# Altium schematic symbol library Horizontal Plastic Modular Jack.SchLib: 26 symbols
Pins are listed as number, name and electrical type; pins without a type are passive.

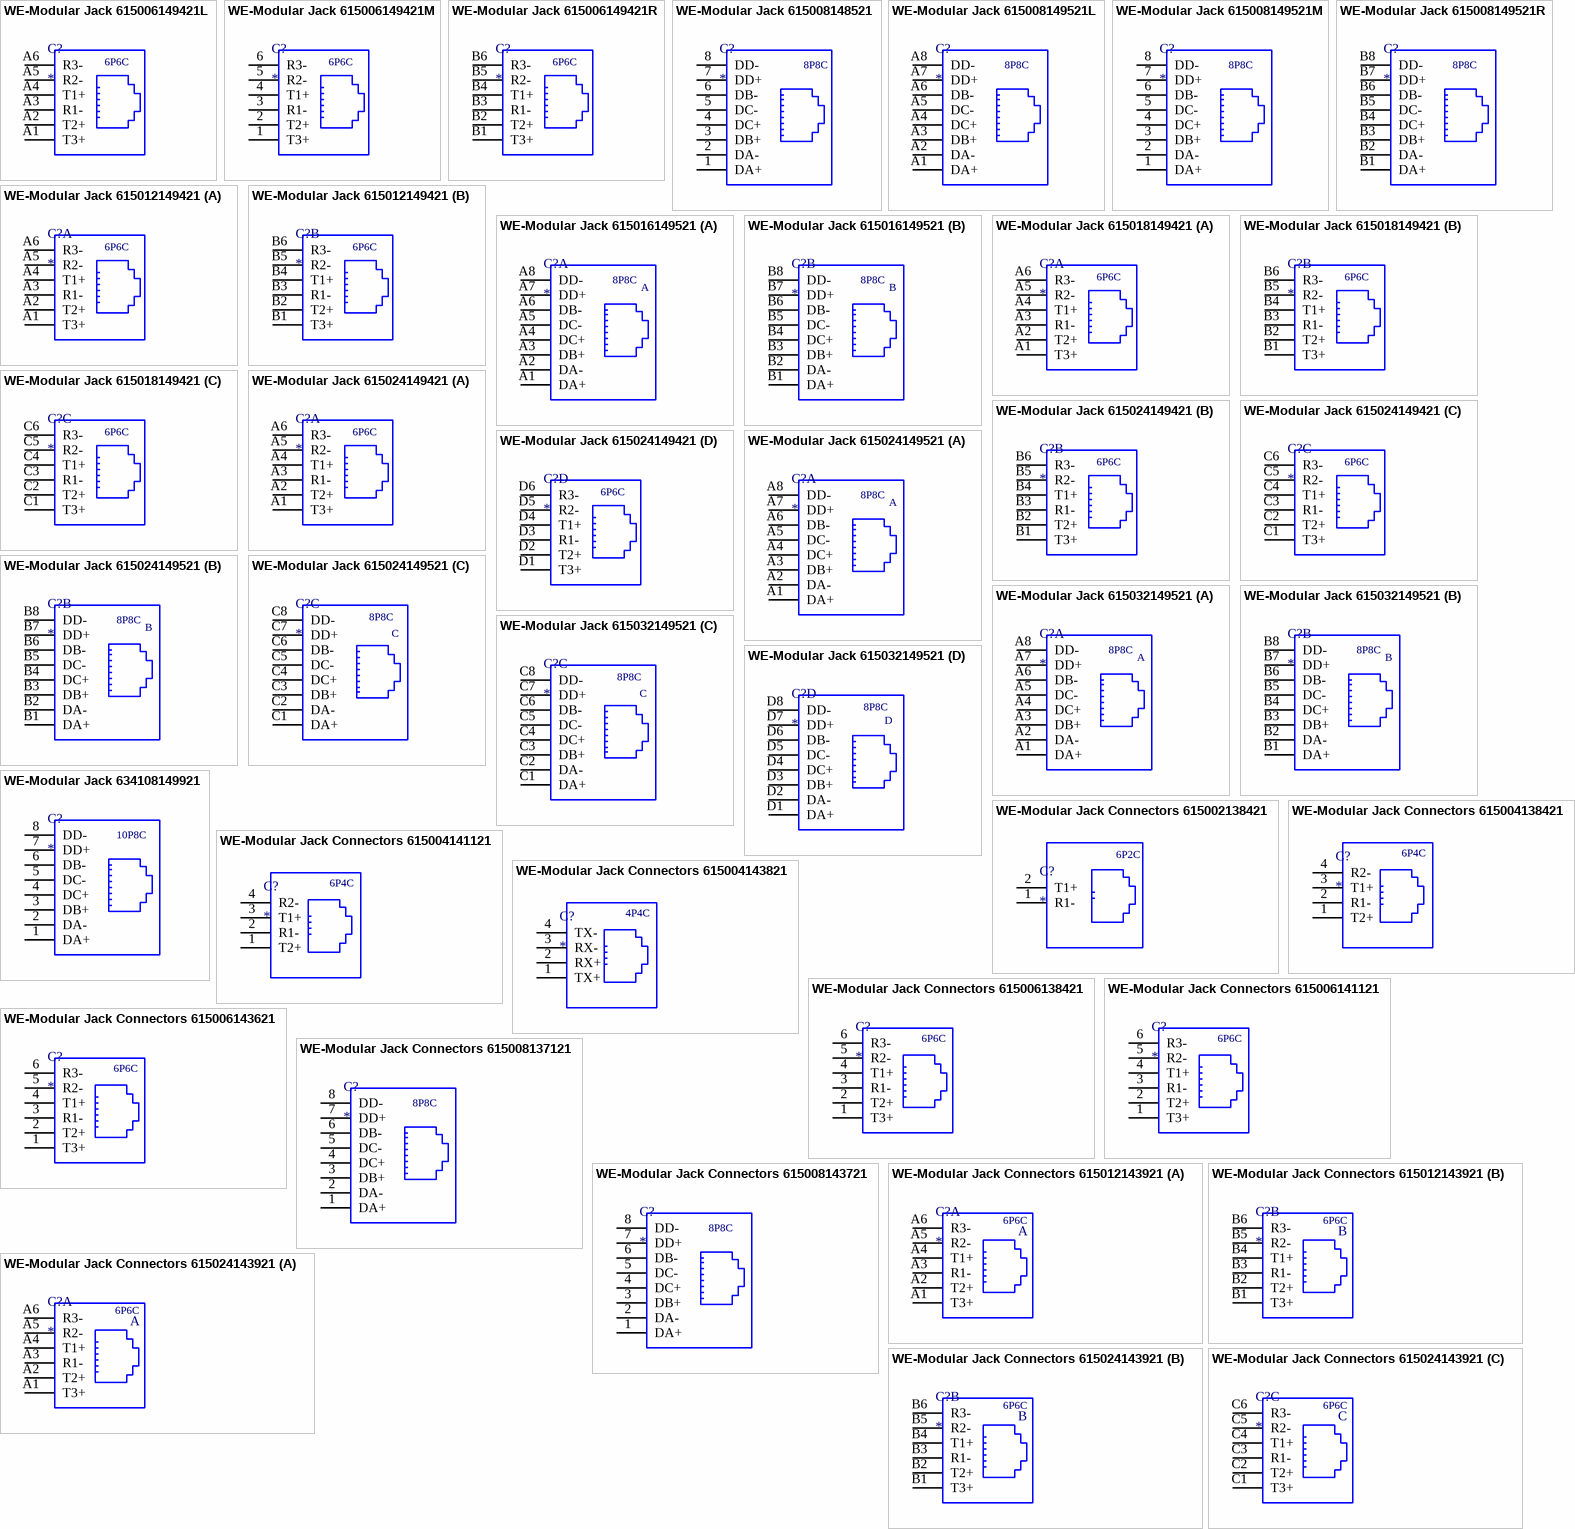
[diagram p0: symbols WE-Modular Jack 615006149421L to WE-Modular Jack Connectors 615024143921]

## WE-Modular Jack 615006149421L
designator C?
WR-MJ_Modular Jack_Tab UP_6P6C; Manufacturer: Würth Elektronik eiSos GmbH; partNo: 615006149421L; ComponentLink1 Description: Manufacturer; ComponentLink2 Description: Datasheet; NoPins: 6; ComponentLink1URL: http://www.we-online.de; ComponentLink2URL: http://katalog.we-online.de/em/datasheet/615006149421L.pdf; Created by: Karrer Zheng; Created Date: 10/20/2014
footprint 615006149421L
pins: A1 T3+, A2 T2+, A3 R1-, A4 T1+, A5 R2-, A6 R3-
text: 6P6C

## WE-Modular Jack 615006149421M
designator C?
WR-MJ_Modular Jack_Tab UP_6P6C; Manufacturer: Würth Elektronik eiSos GmbH; partNo: 615006149421M; ComponentLink1 Description: Manufacturer; ComponentLink2 Description: Datasheet; NoPins: 6; ComponentLink1URL: http://www.we-online.de; ComponentLink2URL: http://katalog.we-online.de/em/datasheet/615006149421M.pdf; Created by: Karrer Zheng; Created Date: 10/20/2014
footprint 615006149421M
pins: 1 T3+, 2 T2+, 3 R1-, 4 T1+, 5 R2-, 6 R3-
text: 6P6C

## WE-Modular Jack 615006149421R
designator C?
WR-MJ_Modular Jack_Tab UP_6P6C; Manufacturer: Würth Elektronik eiSos GmbH; partNo: 615006149421R; ComponentLink1 Description: Manufacturer; ComponentLink2 Description: Datasheet; NoPins: 6; ComponentLink1URL: http://www.we-online.de; ComponentLink2URL: http://katalog.we-online.de/em/datasheet/615006149421R.pdf; Created by: Karrer Zheng; Created Date: 10/20/2014
footprint 615006149421R
pins: B1 T3+, B2 T2+, B3 R1-, B4 T1+, B5 R2-, B6 R3-
text: 6P6C

## WE-Modular Jack 615008148521
designator C?
WR-MJ_Modular Jacks_Plastic_8P8C; Manufacturer: Würth Elektronik eiSos GmbH; partNo: 615008148521; ComponentLink1 Description: Manufacturer; ComponentLink2 Description: Datasheet; NoPins: 8; ComponentLink1URL: http://www.we-online.de; ComponentLink2URL: http://katalog.we-online.de/em/datasheet/615008148521.pdf; Created by: Karrer Zheng; Created Date: 10/20/2014
footprint 615008148521
pins: 1 DA+, 2 DA-, 3 DB+, 4 DC+, 5 DC-, 6 DB-, 7 DD+, 8 DD-
text: 8P8C

## WE-Modular Jack 615008149521L
designator C?
WR-MJ_Modular Jack_Tab UP_8P8C; Manufacturer: Würth Elektronik eiSos GmbH; partNo: 615008149521L; ComponentLink1 Description: Manufacturer; ComponentLink2 Description: Datasheet; NoPins: 8; ComponentLink1URL: http://www.we-online.de; ComponentLink2URL: http://katalog.we-online.de/em/datasheet/615008149521L.pdf; Created by: Karrer Zheng; Created Date: 10/20/2014
footprint 615008149521L
pins: A1 DA+, A2 DA-, A3 DB+, A4 DC+, A5 DC-, A6 DB-, A7 DD+, A8 DD-
text: 8P8C

## WE-Modular Jack 615008149521M
designator C?
WR-MJ_Modular Jack_Tab UP_8P8C; Manufacturer: Würth Elektronik eiSos GmbH; partNo: 615008149521M; ComponentLink1 Description: Manufacturer; ComponentLink2 Description: Datasheet; NoPins: 8; ComponentLink1URL: http://www.we-online.de; ComponentLink2URL: http://katalog.we-online.de/em/datasheet/615008149521M.pdf; Created by: Karrer Zheng; Created Date: 10/20/2014
footprint 615008149521M
pins: 1 DA+, 2 DA-, 3 DB+, 4 DC+, 5 DC-, 6 DB-, 7 DD+, 8 DD-
text: 8P8C

## WE-Modular Jack 615008149521R
designator C?
WR-MJ_Modular Jack_Tab UP_8P8C; Manufacturer: Würth Elektronik eiSos GmbH; partNo: 615008149521R; ComponentLink1 Description: Manufacturer; ComponentLink2 Description: Datasheet; NoPins: 8; ComponentLink1URL: http://www.we-online.de; ComponentLink2URL: http://katalog.we-online.de/em/datasheet/615008149521R.pdf; Created by: Karrer Zheng; Created Date: 10/20/2014
footprint 615008149521R
pins: B1 DA+, B2 DA-, B3 DB+, B4 DC+, B5 DC-, B6 DB-, B7 DD+, B8 DD-
text: 8P8C

## WE-Modular Jack 615012149421
designator C?
WR-MJ_Modular Jack_Tab UP_6P6C; Manufacturer: Würth Elektronik eiSos GmbH; partNo: 615012149421; ComponentLink1 Description: Manufacturer; ComponentLink2 Description: Datasheet; NoPins: 12; ComponentLink1URL: http://www.we-online.de; ComponentLink2URL: http://katalog.we-online.de/em/datasheet/6150xx149421.pdf; Created by: Karrer Zheng; Created Date: 10/20/2014
footprint 615012149421
part A pins: A1 T3+, A2 T2+, A3 R1-, A4 T1+, A5 R2-, A6 R3-
part B pins: B1 T3+, B2 T2+, B3 R1-, B4 T1+, B5 R2-, B6 R3-
part A text: 6P6C
part B text: 6P6C

## WE-Modular Jack 615016149521
designator C?
WR-MJ_Modular Jack_Tab UP_8P8C; Manufacturer: Würth Elektronik eiSos GmbH; partNo: 615016149521; ComponentLink1 Description: Manufacturer; ComponentLink2 Description: Datasheet; NoPins: 16; ComponentLink1URL: http://www.we-online.de; ComponentLink2URL: http://katalog.we-online.de/em/datasheet/6150xx149521.pdf; Created by: Karrer Zheng; Created Date: 10/20/2014
footprint 615016149521
part A pins: A1 DA+, A2 DA-, A3 DB+, A4 DC+, A5 DC-, A6 DB-, A7 DD+, A8 DD-
part B pins: B1 DA+, B2 DA-, B3 DB+, B4 DC+, B5 DC-, B6 DB-, B7 DD+, B8 DD-
part A text: 8P8C; A
part B text: 8P8C; B

## WE-Modular Jack 615018149421
designator C?
WR-MJ_Modular Jack_Tab UP_6P6C; Manufacturer: Würth Elektronik eiSos GmbH; partNo: 615018149421; ComponentLink1 Description: Manufacturer; ComponentLink2 Description: Datasheet; NoPins: 18; ComponentLink1URL: http://www.we-online.de; ComponentLink2URL: http://katalog.we-online.de/em/datasheet/6150xx149421.pdf; Created by: Karrer Zheng; Created Date: 10/20/2014
footprint 615018149421
part A pins: A1 T3+, A2 T2+, A3 R1-, A4 T1+, A5 R2-, A6 R3-
part B pins: B1 T3+, B2 T2+, B3 R1-, B4 T1+, B5 R2-, B6 R3-
part C pins: C1 T3+, C2 T2+, C3 R1-, C4 T1+, C5 R2-, C6 R3-
part A text: 6P6C
part B text: 6P6C
part C text: 6P6C

## WE-Modular Jack 615024149421
designator C?
WR-MJ_Modular Jack_Tab UP_6P6C; Manufacturer: Würth Elektronik eiSos GmbH; partNo: 615024149421; ComponentLink1 Description: Manufacturer; ComponentLink2 Description: Datasheet; NoPins: 24; ComponentLink1URL: http://www.we-online.de; ComponentLink2URL: http://katalog.we-online.de/em/datasheet/6150xx149421.pdf; Created by: Karrer Zheng; Created Date: 10/20/2014
footprint 615024149421
part A pins: A1 T3+, A2 T2+, A3 R1-, A4 T1+, A5 R2-, A6 R3-
part B pins: B1 T3+, B2 T2+, B3 R1-, B4 T1+, B5 R2-, B6 R3-
part C pins: C1 T3+, C2 T2+, C3 R1-, C4 T1+, C5 R2-, C6 R3-
part D pins: D1 T3+, D2 T2+, D3 R1-, D4 T1+, D5 R2-, D6 R3-
part A text: 6P6C
part B text: 6P6C
part C text: 6P6C
part D text: 6P6C

## WE-Modular Jack 615024149521
designator C?
WR-MJ_Modular Jack_Tab UP_8P8C; Manufacturer: Würth Elektronik eiSos GmbH; partNo: 615024149521; ComponentLink1 Description: Manufacturer; ComponentLink2 Description: Datasheet; NoPins: 24; ComponentLink1URL: http://www.we-online.de; ComponentLink2URL: http://katalog.we-online.de/em/datasheet/6150xx149521.pdf; Created by: Karrer Zheng; Created Date: 10/20/2014
footprint 615024149521
part A pins: A1 DA+, A2 DA-, A3 DB+, A4 DC+, A5 DC-, A6 DB-, A7 DD+, A8 DD-
part B pins: B1 DA+, B2 DA-, B3 DB+, B4 DC+, B5 DC-, B6 DB-, B7 DD+, B8 DD-
part C pins: C1 DA+, C2 DA-, C3 DB+, C4 DC+, C5 DC-, C6 DB-, C7 DD+, C8 DD-
part A text: 8P8C; A
part B text: 8P8C; B
part C text: 8P8C; C

## WE-Modular Jack 615032149521
designator C?
WR-MJ_Modular Jack_Tab UP_8P8C; Manufacturer: Würth Elektronik eiSos GmbH; partNo: 615032149521; ComponentLink1 Description: Manufacturer; ComponentLink2 Description: Datasheet; NoPins: 32; ComponentLink1URL: http://www.we-online.de; ComponentLink2URL: http://katalog.we-online.de/em/datasheet/6150xx149521.pdf; Created by: Karrer Zheng; Created Date: 10/20/2014
footprint 615032149521
part A pins: A1 DA+, A2 DA-, A3 DB+, A4 DC+, A5 DC-, A6 DB-, A7 DD+, A8 DD-
part B pins: B1 DA+, B2 DA-, B3 DB+, B4 DC+, B5 DC-, B6 DB-, B7 DD+, B8 DD-
part C pins: C1 DA+, C2 DA-, C3 DB+, C4 DC+, C5 DC-, C6 DB-, C7 DD+, C8 DD-
part D pins: D1 DA+, D2 DA-, D3 DB+, D4 DC+, D5 DC-, D6 DB-, D7 DD+, D8 DD-
part A text: 8P8C; A
part B text: 8P8C; B
part C text: 8P8C; C
part D text: 8P8C; D

## WE-Modular Jack 634108149921
designator C?
WR-MJ_Modular Jack_Tab DOWN_10P8C; Manufacturer: Würth Elektronik eiSos GmbH; partNo: 634108149921; ComponentLink1 Description: Manufacturer; ComponentLink2 Description: Datasheet; NoPins: 8; ComponentLink1URL: http://www.we-online.de; ComponentLink2URL: http://katalog.we-online.de/em/datasheet/634108149921.pdf; Created by: Karrer Zheng; Created Date: 10/20/2014
footprint 634108149921
pins: 1 DA+, 2 DA-, 3 DB+, 4 DC+, 5 DC-, 6 DB-, 7 DD+, 8 DD-
text: 10P8C

## WE-Modular Jack Connectors 615002138421
designator C?
WR-COM Modular Jack Horizontal Plastic 1x1 TH    6P2C Tab Up; Manufacturer: Würth Elektronik eiSos GmbH; partNo: 615002138421; ComponentLink1 Description: Manufacturer; ComponentLink2 Description: Datasheet; NoPins: 2; ComponentLink1URL: http://www.we-online.de; ComponentLink2URL: http://katalog.we-online.de/em/datasheet/615002138421.pdf; Created by: Karrer Zheng; Created Date: 10/22/2014
footprint 615002138421
pins: 1 R1-, 2 T1+
text: 6P2C

## WE-Modular Jack Connectors 615004138421
designator C?
WR-COM Modular Jack Horizontal Plastic 1x1 TH    6P4C Tab Up; Manufacturer: Würth Elektronik eiSos GmbH; partNo: 615004138421; ComponentLink1 Description: Manufacturer; ComponentLink2 Description: Datasheet; NoPins: 4; ComponentLink1URL: http://www.we-online.de; ComponentLink2URL: http://katalog.we-online.de/em/datasheet/615004138421.pdf; Created by: Karrer Zheng; Created Date: 10/22/2014
footprint 615004138421
pins: 1 T2+, 2 R1-, 3 T1+, 4 R2-
text: 6P4C

## WE-Modular Jack Connectors 615004141121
designator C?
WR-COM Modular Jack Horizontal Plastic 1x1 TH    6P4C Tab Down; Manufacturer: Würth Elektronik eiSos GmbH; partNo: 615004141121; ComponentLink1 Description: Manufacturer; ComponentLink2 Description: Datasheet; NoPins: 4; ComponentLink1URL: http://www.we-online.de; ComponentLink2URL: http://katalog.we-online.de/em/datasheet/615004141121.pdf; Created by: Karrer Zheng; Created Date: 10/22/2014
footprint 615004141121
pins: 1 T2+, 2 R1-, 3 T1+, 4 R2-
text: 6P4C

## WE-Modular Jack Connectors 615004143821
designator C?
WR-COM Modular Jack Horizontal Plastic 1x1 TH    4P4C Tab Up; Manufacturer: Würth Elektronik eiSos GmbH; partNo: 615004143821; ComponentLink1 Description: Manufacturer; ComponentLink2 Description: Datasheet; NoPins: 4; ComponentLink1URL: http://www.we-online.de; ComponentLink2URL: http://katalog.we-online.de/em/datasheet/615004143821.pdf; Created by: Karrer Zheng; Created Date: 10/22/2014
footprint 615004143821
pins: 1 TX+, 2 RX+, 3 RX-, 4 TX-
text: 4P4C

## WE-Modular Jack Connectors 615006138421
designator C?
WR-COM Modular Jack Horizontal Plastic 1x1 TH  6P6C Tab Up; Manufacturer: Würth Elektronik eiSos GmbH; partNo: 615006138421; ComponentLink1 Description: Manufacturer; ComponentLink2 Description: Datasheet; NoPins: 6; ComponentLink1URL: http://www.we-online.de; ComponentLink2URL: http://katalog.we-online.de/em/datasheet/615006138421.pdf; Created by: Karrer Zheng; Created Date: 10/22/2014
footprint 615006138421
pins: 1 T3+, 2 T2+, 3 R1-, 4 T1+, 5 R2-, 6 R3-
text: 6P6C

## WE-Modular Jack Connectors 615006141121
designator C?
WR-COM Modular Jack Horizontal Plastic 1x1 TH    6P6C Tab Down; Manufacturer: Würth Elektronik eiSos GmbH; partNo: 615006141121; ComponentLink1 Description: Manufacturer; ComponentLink2 Description: Datasheet; NoPins: 6; ComponentLink1URL: http://www.we-online.de; ComponentLink2URL: http://katalog.we-online.de/em/datasheet/615006141121.pdf; Created by: Karrer Zheng; Created Date: 10/22/2014
footprint 615006141121
pins: 1 T3+, 2 T2+, 3 R1-, 4 T1+, 5 R2-, 6 R3-
text: 6P6C

## WE-Modular Jack Connectors 615006143621
designator C?
WR-COM Modular Jack Horizontal Plastic 1x1 TH    6P6C Tab Down; Manufacturer: Würth Elektronik eiSos GmbH; partNo: 615006143621; ComponentLink1 Description: Manufacturer; ComponentLink2 Description: Datasheet; NoPins: 6; ComponentLink1URL: http://www.we-online.de; ComponentLink2URL: http://katalog.we-online.de/em/datasheet/615006143621.pdf; Created by: Karrer Zheng; Created Date: 10/22/2014
footprint 615006143621
pins: 1 T3+, 2 T2+, 3 R1-, 4 T1+, 5 R2-, 6 R3-
text: 6P6C

## WE-Modular Jack Connectors 615008137121
designator C?
WR-COM Modular Jack RJ45 Horizontal Tab down; Manufacturer: Würth Elektronik eiSos GmbH; partNo: 615008137121; ComponentLink1 Description: Manufacturer; ComponentLink2 Description: Datasheet; NoPins: 8; ComponentLink1URL: http://www.we-online.de; ComponentLink2URL: http://katalog.we-online.de/em/datasheet/615008137121.pdf; Created by: Karrer Zheng; Created Date: 10/22/2014
footprint 615008137121
pins: 1 DA+, 2 DA-, 3 DB+, 4 DC+, 5 DC-, 6 DB-, 7 DD+, 8 DD-
text: 8P8C

## WE-Modular Jack Connectors 615008143721
designator C?
WR-COM Modular Jack Horizontal Plastic 1x1 TH    8P8C Tab Down; Manufacturer: Würth Elektronik eiSos GmbH; partNo: 615008143721; ComponentLink1 Description: Manufacturer; ComponentLink2 Description: Datasheet; NoPins: 8; ComponentLink1URL: http://www.we-online.de; ComponentLink2URL: http://katalog.we-online.de/em/datasheet/615008143721.pdf; Created by: Karrer Zheng; Created Date: 10/22/2014
footprint 615008143721
pins: 1 DA+, 2 DA-, 3 DB+, 4 DC+, 5 DC-, 6 DB-, 7 DD+, 8 DD-
text: 8P8C

## WE-Modular Jack Connectors 615012143921
designator C?
WR-COM Modular Jack Horizontal Plastic 1x2 TH    6P6C Tab Up; Manufacturer: Würth Elektronik eiSos GmbH; partNo: 615012143921; ComponentLink1 Description: Manufacturer; ComponentLink2 Description: Datasheet; NoPins: 12; ComponentLink1URL: http://www.we-online.de; ComponentLink2URL: http://katalog.we-online.de/em/datasheet/615012143921.pdf; Created by: Karrer Zheng; Created Date: 10/22/2014
footprint 615012143921
part A pins: A1 T3+, A2 T2+, A3 R1-, A4 T1+, A5 R2-, A6 R3-
part B pins: B1 T3+, B2 T2+, B3 R1-, B4 T1+, B5 R2-, B6 R3-
part A text: 6P6C; A
part B text: 6P6C; B

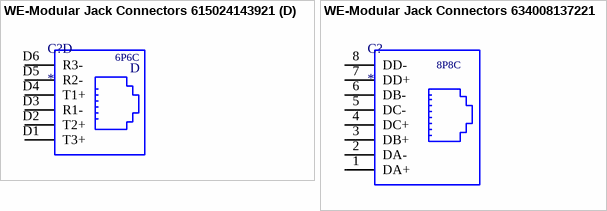
[diagram p1: symbols WE-Modular Jack Connectors 615024143921 to WE-Modular Jack Connectors 634008137221]

## WE-Modular Jack Connectors 615024143921
designator C?
WR-COM Modular Jack Horizontal Plastic 1x4 TH    6P6C Tab Up; Manufacturer: Würth Elektronik eiSos GmbH; partNo: 615024143921; ComponentLink1 Description: Manufacturer; ComponentLink2 Description: Datasheet; NoPins: 24; ComponentLink1URL: http://www.we-online.de; ComponentLink2URL: http://katalog.we-online.de/em/datasheet/615024143921.pdf; Created by: Karrer Zheng; Created Date: 10/22/2014
footprint 615024143921
part A pins: A1 T3+, A2 T2+, A3 R1-, A4 T1+, A5 R2-, A6 R3-
part B pins: B1 T3+, B2 T2+, B3 R1-, B4 T1+, B5 R2-, B6 R3-
part C pins: C1 T3+, C2 T2+, C3 R1-, C4 T1+, C5 R2-, C6 R3-
part D pins: D1 T3+, D2 T2+, D3 R1-, D4 T1+, D5 R2-, D6 R3-
part A text: 6P6C; A
part B text: 6P6C; B
part C text: 6P6C; C
part D text: 6P6C; D

## WE-Modular Jack Connectors 634008137221
designator C?
WR-COM Modular Jack RJ45 Horizontal SMT Tab down; Manufacturer: Würth Elektronik eiSos GmbH; partNo: 634008137221; ComponentLink1 Description: Manufacturer; ComponentLink2 Description: Datasheet; NoPins: 8; ComponentLink1URL: http://www.we-online.de; ComponentLink2URL: http://katalog.we-online.de/em/datasheet/634008137221.pdf; Created by: Karrer Zheng; Created Date: 10/22/2014
footprint 634008137221
pins: 1 DA+, 2 DA-, 3 DB+, 4 DC+, 5 DC-, 6 DB-, 7 DD+, 8 DD-
text: 8P8C